# Altium schematic symbol library 25Mhz.SchLib: 1 symbol
Pins are listed as number, name and electrical type; pins without a type are passive.

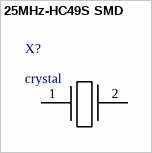
[diagram p0: symbol 25MHz-HC49S SMD]

## 25MHz-HC49S SMD
designator X?, comment crystal
25MHz-HC49S SMD
footprint CAPAE13443X63M (Aluminum Electrolytic Capacitor, Body 11.40x4.30x6.30mm, IPC Low Density)
pins: 1 XIN, 2 XOUT